# Altium integrated library P9221.IntLib: 1 symbol
Pins are listed as number, name and electrical type; pins without a type are passive.

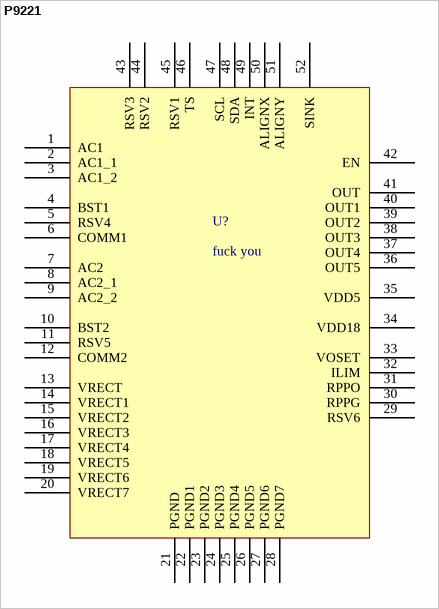
[diagram p0: symbol P9221]

## P9221
designator U?, comment fuck you
pins: 1 AC1, 2 AC1_1, 3 AC1_2, 4 BST1, 5 RSV4, 6 COMM1, 7 AC2, 8 AC2_1, 9 AC2_2, 10 BST2, 11 RSV5, 12 COMM2, 13 VRECT, 14 VRECT1, 15 VRECT2, 16 VRECT3, 17 VRECT4, 18 VRECT5, 19 VRECT6, 20 VRECT7, 21 PGND, 22 PGND1, 23 PGND2, 24 PGND3, 25 PGND4, 26 PGND5, 27 PGND6, 28 PGND7, 29 RSV6, 30 RPPG, 31 RPPO, 32 ILIM, 33 VOSET, 34 VDD18, 35 VDD5, 36 OUT5, 37 OUT4, 38 OUT3, 39 OUT2, 40 OUT1, 41 OUT, 42 EN, 43 RSV3, 44 RSV2, 45 RSV1, 46 TS, 47 SCL, 48 SDA, 49 INT, 50 ALIGNX, 51 ALIGNY, 52 SINK